# Altium footprint library userlib.PCBLIB: 26 footprints (part 1 of 2)
Each footprint in its own frame and in the unit in brackets; x right, y up, seen from the top. Pads: shape width x height; smd on the part's side, far side on the other; paste and mask are expansions set on the pad; w line width, h text height; cw(c..) or ccw(c..) is an arc to the next point about the centre after c.
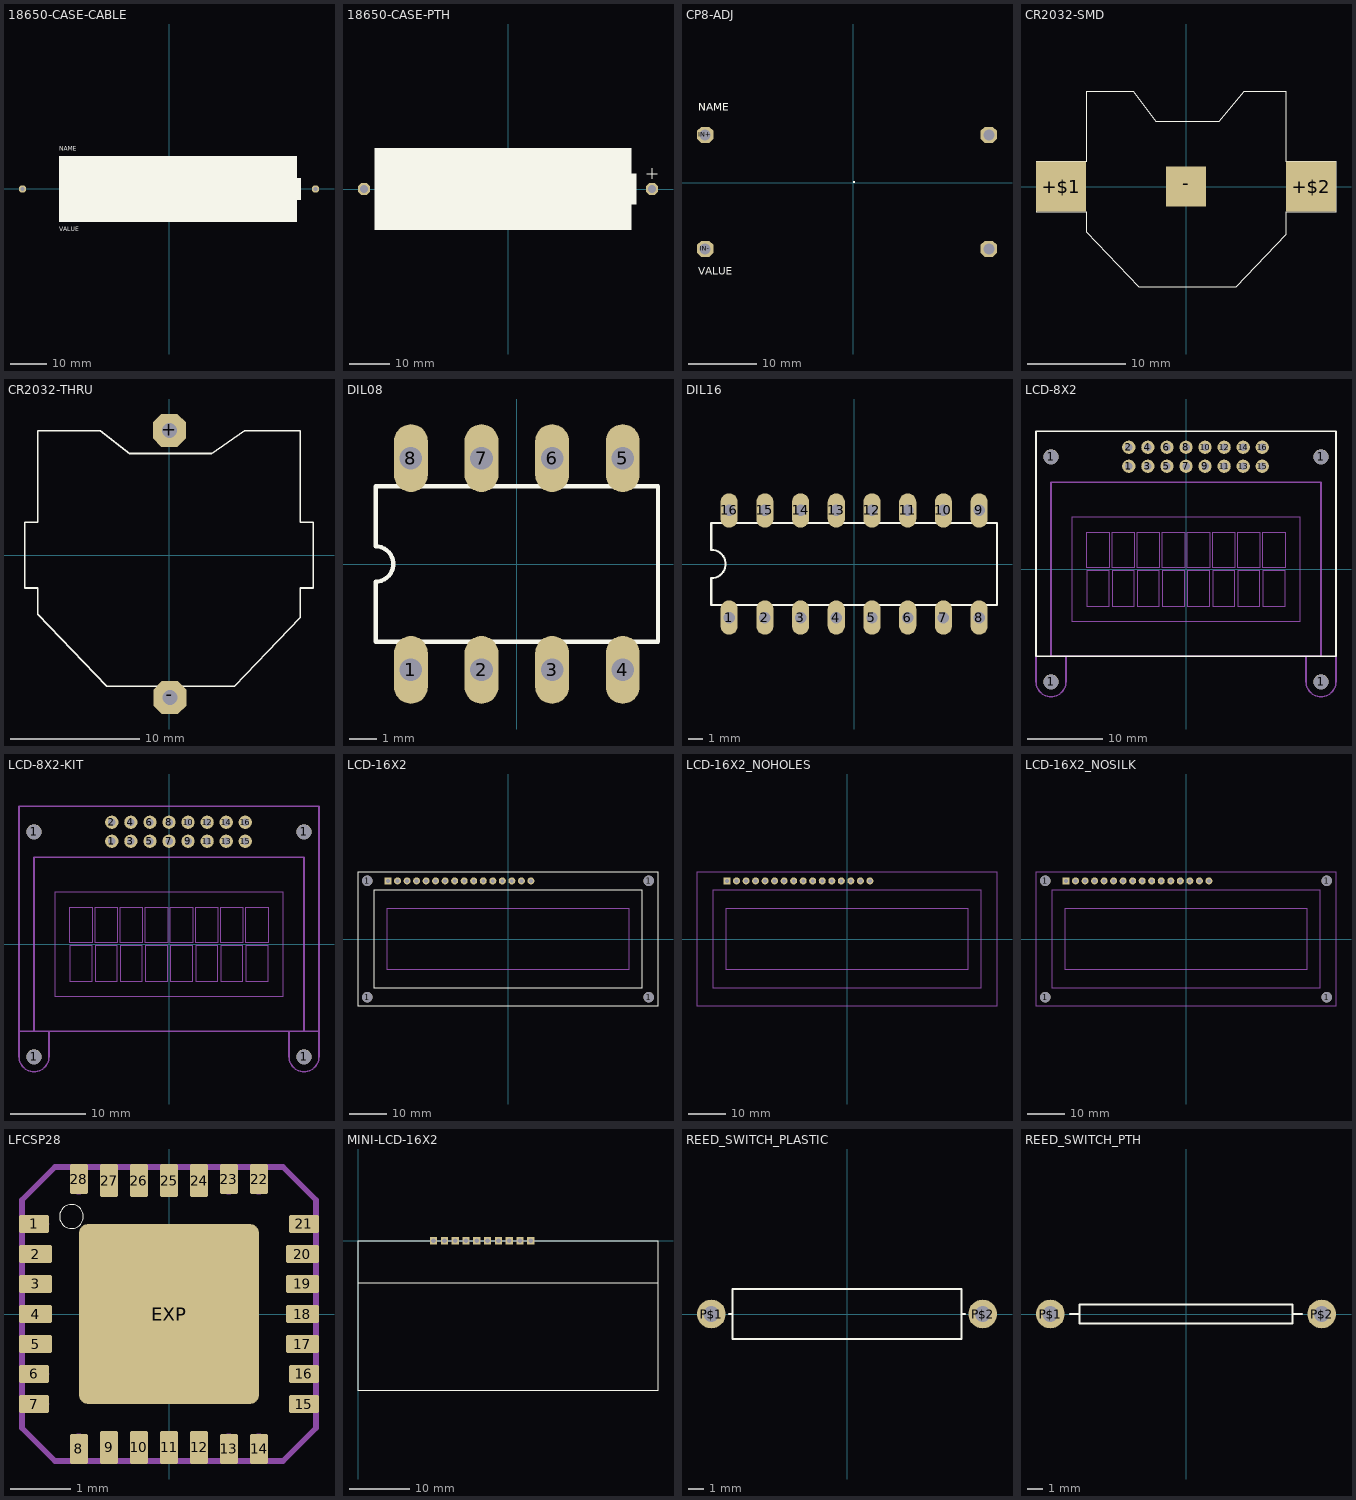
[diagram p0: the footprints below, top view; thin cyan lines are the x and y axes]

## 18650-CASE-CABLE [mil]
pads (2):
  oct 76x76 hole 39.37: NEG(-1574.8,0) POS(1574.8,0)
Top Overlay:
  rectangle: -1181.1,-354.33 1377.95,354.33
  rectangle: 1377.95,-118.11 1417.32,118.11
  text "NAME" at -1181.1,393.7 h77.5
  text "VALUE" at -1181.1,-472.44 h77.5

## 18650-CASE-PTH [mm]
pads (2):
  oct 3x3 hole 2: NEG(-35.56,0) POS(35.56,0)
Top Overlay:
  rectangle: -33.02,-10.16 30.48,10.16
  rectangle: 30.48,-3.81 31.75,3.81
  lines w0.127: 34.29,3.81 36.83,3.81 ; 35.56,2.54 35.56,5.08

## CP8-ADJ [mil]
pads (4):
  oct 94.48x94.48 hole 62.99: IN+(-858.66,277.56) IN-(-858.66,-383.86) OUT+(787.01,277.56) OUT-(787.01,-383.86)
Top Overlay:
  region: 0,0 10,0 10,10 0,10
  text "NAME" at -900,400 h77.5
  text "NAME" at -900,400 h77.5
  text "VALUE" at -900,-550 h77.5

## CR2032-SMD [mil]
pads (3):
  rect 200x200 smd: +$1(-500,0) +$2(500,0)
  rect 160x160 smd: -(0,0)
Top Overlay:
  circle w5: c-510,0 r36.06
  circle w5: c500,10 r36.06
  lines w5: -600,-100 -400,-100 -400,-180 -190,-400 200,-400 400,-190 400,-100 600,-100 600,100 400,100 400,380 230,380 130,260 -120,260 -210,380 -400,380 -400,100 -600,100 -600,-100
Top Solder:
  region: 0,0 10,0 10,10 0,10

## CR2032-THRU [mil]
pads (2):
  oct 100x100 hole 45: +(1.26,380.71) -(2.68,-434.65)
Top Overlay:
  lines w5: -440,-100 -400,-100 -400,-180 -190,-400 200,-400 400,-190 400,-100 440,-100 440,100 400,100 400,380 230,380 130,310 -120,310 -210,380 -400,380 -400,100 -440,100 -440,-100
Top Solder:
  region: 0,0 10,0 10,10 0,10

## DIL08 [mil]
pads (8):
  oval 48x96 hole 32: 1(-150,-150) 2(-50,-150) 3(50,-150) 4(150,-150) 5(150,150) 6(50,150) 7(-50,150) 8(-150,150)
Top Overlay:
  lines w6: -200,-110 -200,-25 ccw(c-200,0) -200,25 -200,110 200,110 200,-110 -200,-110

## DIL16 [mil]
pads (16):
  oval 48x96 hole 32: 1(-350,-150) 2(-250,-150) 3(-150,-150) 4(-50,-150) 5(50,-150) 6(150,-150) 7(250,-150) 8(350,-150) 9(350,150) 10(250,150) 11(150,150) 12(50,150) 13(-50,150) 14(-150,150) 15(-250,150) 16(-350,150)
Top Overlay:
  lines w6: -400,-115 400,-115 400,115 -400,115 -400,40 cw(c-400,0) -400,-40 -400,-115

## LCD-8X2 [mil]
pads (20):
  round 78.74 hole 78.74: 1(-708.66,-590.55) 1(-708.66,590.55) 1(708.66,-590.55) 1(708.66,590.55)
  round 70 hole 39.37: 1(-300,540.55) 2(-300,640.55) 3(-200,540.55) 4(-200,640.55) 5(-100,540.55) 6(-100,640.55) 7(0,540.55) 8(0,640.55) 9(100,540.55) 10(100,640.55) 11(200,540.55) 12(200,640.55) 13(300,540.55) 14(300,640.55) 15(400,540.55) 16(400,640.55)
Top Overlay:
  lines w8: -787.4,-456.69 -787.4,724.41 787.4,724.41 787.4,-456.69 -787.4,-456.69
Mechanical 16:
  lines w5: -598.43,-273.62 -598.43,273.62 598.43,273.62 598.43,-273.62 -598.43,-273.62 ; -519.69,-194.88 -519.69,-7.87 -403.54,-7.87 -403.54,-194.88 -519.69,-194.88 ; -519.69,7.87 -519.69,194.88 -403.54,194.88 -403.54,7.87 -519.69,7.87 ; -387.8,-194.88 -387.8,-7.87 -271.65,-7.87 -271.65,-194.88 -387.8,-194.88 ; -387.8,7.87 -387.8,194.88 -271.65,194.88 -271.65,7.87 -387.8,7.87 ; -255.91,-194.88 -255.91,-7.87 -139.76,-7.87 -139.76,-194.88 -255.91,-194.88 ; -255.91,7.87 -255.91,194.88 -139.76,194.88 -139.76,7.87 -255.91,7.87 ; -124.02,-194.88 -124.02,-7.87 -7.87,-7.87 -7.87,-194.88 -124.02,-194.88 ; -124.02,7.87 -124.02,194.88 -7.87,194.88 -7.87,7.87 -124.02,7.87 ; 7.87,-194.88 7.87,-7.87 124.02,-7.87 124.02,-194.88 7.87,-194.88 ; 7.87,7.87 7.87,194.88 124.02,194.88 124.02,7.87 7.87,7.87 ; 139.76,-194.88 139.76,-7.87 255.91,-7.87 255.91,-194.88 139.76,-194.88 ; 139.76,7.87 139.76,194.88 255.91,194.88 255.91,7.87 139.76,7.87 ; 271.65,-194.88 271.65,-7.87 387.8,-7.87 387.8,-194.88 271.65,-194.88 ; 271.65,7.87 271.65,194.88 387.8,194.88 387.8,7.87 271.65,7.87 ; 403.54,-194.88 403.54,-7.87 519.69,-7.87 519.69,-194.88 403.54,-194.88 ; 403.54,7.87 403.54,194.88 519.69,194.88 519.69,7.87 403.54,7.87
  lines w8: -787.4,-456.69 -787.4,-590.55 ccw(c-708.66,-590.55) -629.92,-590.55 -629.92,-456.69 ; 629.92,-456.69 629.92,-590.55 ccw(c708.66,-590.55) 787.4,-590.55 787.4,-456.69 ; -708.66,-456.69 -708.66,456.69 708.66,456.69 708.66,-456.69 -708.66,-456.69

## LCD-8X2-KIT [mil]
pads (20):
  round 78.74 hole 78.74: 1(-708.66,-590.55) 1(-708.66,590.55) 1(708.66,-590.55) 1(708.66,590.55)
  round 70 hole 39.37: 1(-300,540.55) 2(-300,640.55) 3(-200,540.55) 4(-200,640.55) 5(-100,540.55) 6(-100,640.55) 7(0,540.55) 8(0,640.55) 9(100,540.55) 10(100,640.55) 11(200,540.55) 12(200,640.55) 13(300,540.55) 14(300,640.55) 15(400,540.55) 16(400,640.55)
Top Solder:
  region: 0,0 10,0 10,10 0,10
  region: 0,0 10,0 10,10 0,10
  region: 0,0 10,0 10,10 0,10
  region: 0,0 10,0 10,10 0,10
  region: 0,0 10,0 10,10 0,10
  region: 0,0 10,0 10,10 0,10
  region: 0,0 10,0 10,10 0,10
  region: 0,0 10,0 10,10 0,10
  region: 0,0 10,0 10,10 0,10
  region: 0,0 10,0 10,10 0,10
  region: 0,0 10,0 10,10 0,10
  region: 0,0 10,0 10,10 0,10
  region: 0,0 10,0 10,10 0,10
  region: 0,0 10,0 10,10 0,10
  region: 0,0 10,0 10,10 0,10
  region: 0,0 10,0 10,10 0,10
Bottom Solder:
  region: 0,0 10,0 10,10 0,10
  region: 0,0 10,0 10,10 0,10
  region: 0,0 10,0 10,10 0,10
  region: 0,0 10,0 10,10 0,10
  region: 0,0 10,0 10,10 0,10
  region: 0,0 10,0 10,10 0,10
  region: 0,0 10,0 10,10 0,10
  region: 0,0 10,0 10,10 0,10
  region: 0,0 10,0 10,10 0,10
  region: 0,0 10,0 10,10 0,10
  region: 0,0 10,0 10,10 0,10
  region: 0,0 10,0 10,10 0,10
  region: 0,0 10,0 10,10 0,10
  region: 0,0 10,0 10,10 0,10
  region: 0,0 10,0 10,10 0,10
  region: 0,0 10,0 10,10 0,10
Mechanical 16:
  lines w5: -598.43,-273.62 -598.43,273.62 598.43,273.62 598.43,-273.62 -598.43,-273.62 ; -519.69,-194.88 -519.69,-7.87 -403.54,-7.87 -403.54,-194.88 -519.69,-194.88 ; -519.69,7.87 -519.69,194.88 -403.54,194.88 -403.54,7.87 -519.69,7.87 ; -387.8,-194.88 -387.8,-7.87 -271.65,-7.87 -271.65,-194.88 -387.8,-194.88 ; -387.8,7.87 -387.8,194.88 -271.65,194.88 -271.65,7.87 -387.8,7.87 ; -255.91,-194.88 -255.91,-7.87 -139.76,-7.87 -139.76,-194.88 -255.91,-194.88 ; -255.91,7.87 -255.91,194.88 -139.76,194.88 -139.76,7.87 -255.91,7.87 ; -124.02,-194.88 -124.02,-7.87 -7.87,-7.87 -7.87,-194.88 -124.02,-194.88 ; -124.02,7.87 -124.02,194.88 -7.87,194.88 -7.87,7.87 -124.02,7.87 ; 7.87,-194.88 7.87,-7.87 124.02,-7.87 124.02,-194.88 7.87,-194.88 ; 7.87,7.87 7.87,194.88 124.02,194.88 124.02,7.87 7.87,7.87 ; 139.76,-194.88 139.76,-7.87 255.91,-7.87 255.91,-194.88 139.76,-194.88 ; 139.76,7.87 139.76,194.88 255.91,194.88 255.91,7.87 139.76,7.87 ; 271.65,-194.88 271.65,-7.87 387.8,-7.87 387.8,-194.88 271.65,-194.88 ; 271.65,7.87 271.65,194.88 387.8,194.88 387.8,7.87 271.65,7.87 ; 403.54,-194.88 403.54,-7.87 519.69,-7.87 519.69,-194.88 403.54,-194.88 ; 403.54,7.87 403.54,194.88 519.69,194.88 519.69,7.87 403.54,7.87
  lines w8: -629.92,-456.69 -629.92,-590.55 cw(c-708.66,-590.55) -787.4,-590.55 -787.4,-456.69 ; 629.92,-456.69 629.92,-590.55 ccw(c708.66,-590.55) 787.4,-590.55 787.4,-456.69 ; -787.4,-456.69 -787.4,724.41 787.4,724.41 787.4,-456.69 ; -787.4,-456.69 787.4,-456.69 ; -708.66,-456.69 -708.66,456.69 708.66,456.69 708.66,-456.69 -708.66,-456.69

## LCD-16X2 [mil]
pads (20):
  round 110.24 hole 110.24: 1(-1476.38,-610.24) 1(-1476.38,610.24) 1(1476.38,-610.24) 1(1476.38,610.24)
  rect 74x74 hole 40: 1(-1259.84,610.24)
  round 74 hole 40: 2(-1159.84,610.24) 3(-1059.84,610.24) 4(-959.84,610.24) 5(-859.84,610.24) 6(-759.84,610.24) 7(-659.84,610.24) 8(-559.84,610.24) 9(-459.84,610.24) 10(-359.84,610.24) 11(-259.84,610.24) 12(-159.84,610.24) 13(-59.84,610.24) 14(40.16,610.24) 15(140.16,610.24) 16(240.16,610.24)
Top Overlay:
  lines w8: -1574.8,-708.66 1574.8,-708.66 1574.8,708.66 -1574.8,708.66 -1574.8,-708.66 ; -1403.54,-517.72 1403.54,-517.72 1403.54,517.72 -1403.54,517.72 -1403.54,-517.72
Mechanical 12:
  lines w8: -1269.69,-322.83 1269.69,-322.83 1269.69,322.83 -1269.69,322.83 -1269.69,-322.83
Mechanical 16:
  text "1" at -1350,600 h62

## LCD-16X2_NOHOLES [mil]
pads (16):
  rect 74x74 hole 40: 1(-1259.84,610.24)
  round 74 hole 40: 2(-1159.84,610.24) 3(-1059.84,610.24) 4(-959.84,610.24) 5(-859.84,610.24) 6(-759.84,610.24) 7(-659.84,610.24) 8(-559.84,610.24) 9(-459.84,610.24) 10(-359.84,610.24) 11(-259.84,610.24) 12(-159.84,610.24) 13(-59.84,610.24) 14(40.16,610.24) 15(140.16,610.24) 16(240.16,610.24)
Mechanical 16:
  lines w8: -1574.8,-708.66 1574.8,-708.66 1574.8,708.66 -1574.8,708.66 -1574.8,-708.66 ; -1403.54,-517.72 1403.54,-517.72 1403.54,517.72 -1403.54,517.72 -1403.54,-517.72 ; -1269.69,-322.83 1269.69,-322.83 1269.69,322.83 -1269.69,322.83 -1269.69,-322.83
  text "1" at -1350,600 h62

## LCD-16X2_NOSILK [mil]
pads (20):
  round 110.24 hole 110.24: 1(-1476.38,-610.24) 1(-1476.38,610.24) 1(1476.38,-610.24) 1(1476.38,610.24)
  rect 74x74 hole 40: 1(-1259.84,610.24)
  round 74 hole 40: 2(-1159.84,610.24) 3(-1059.84,610.24) 4(-959.84,610.24) 5(-859.84,610.24) 6(-759.84,610.24) 7(-659.84,610.24) 8(-559.84,610.24) 9(-459.84,610.24) 10(-359.84,610.24) 11(-259.84,610.24) 12(-159.84,610.24) 13(-59.84,610.24) 14(40.16,610.24) 15(140.16,610.24) 16(240.16,610.24)
Mechanical 16:
  lines w8: -1574.8,-708.66 1574.8,-708.66 1574.8,708.66 -1574.8,708.66 -1574.8,-708.66 ; -1403.54,-517.72 1403.54,-517.72 1403.54,517.72 -1403.54,517.72 -1403.54,-517.72 ; -1269.69,-322.83 1269.69,-322.83 1269.69,322.83 -1269.69,322.83 -1269.69,-322.83
  text "1" at -1350,600 h62

## LFCSP28 [mm]
pads (29):
  rrect20% 0.5x0.3 smd: 1(-2.25,1.5) 6(-2.25,-1) 7(-2.25,-1.5) 15(2.25,-1.5) 16(2.25,-1) 21(2.25,1.5)
  rrect20% 0.55x0.3 smd: 2(-2.225,1) 3(-2.225,0.5) 4(-2.225,0) 5(-2.225,-0.5) 17(2.225,-0.5) 18(2.225,0) 19(2.225,0.5) 20(2.225,1)
  rrect20% 0.3x0.5 smd: 8(-1.5,-2.25) 13(1,-2.25) 14(1.5,-2.25) 22(1.5,2.25) 23(1,2.25) 28(-1.5,2.25)
  rrect20% 0.3x0.55 smd: 9(-1,-2.225) 10(-0.5,-2.225) 11(0,-2.225) 12(0.5,-2.225) 24(0.5,2.225) 25(0,2.225) 26(-0.5,2.225) 27(-1,2.225)
  rrect10% 3x3 smd: EXP(0,0)
Top Overlay:
  circle w0: c-1.625,1.625 r0.2
Top Paste:
  rectangle: -2.475,1.375 -2.025,1.625
  rectangle: -2.475,0.875 -1.975,1.125
  rectangle: -2.475,0.375 -1.975,0.625
  rectangle: -2.475,-0.125 -1.975,0.125
  rectangle: -2.475,-0.625 -1.975,-0.375
  rectangle: -2.475,-1.125 -2.025,-0.875
  region: -0.875,-2.475 -0.875,-2.025 -1.125,-2.025 -1.125,-2.475
  region: -0.375,-2.475 -0.375,-1.975 -0.625,-1.975 -0.625,-2.475
  region: 0.125,-2.475 0.125,-1.975 -0.125,-1.975 -0.125,-2.475
  region: 0.625,-2.475 0.625,-1.975 0.375,-1.975 0.375,-2.475
  region: 1.125,-2.475 1.125,-1.975 0.875,-1.975 0.875,-2.475
  region: 1.625,-2.475 1.625,-2.025 1.375,-2.025 1.375,-2.475
  region: 2.475,-0.875 2.025,-0.875 2.025,-1.125 2.475,-1.125
  region: 2.475,-0.375 1.975,-0.375 1.975,-0.625 2.475,-0.625
  region: 2.475,0.125 1.975,0.125 1.975,-0.125 2.475,-0.125
  region: 2.475,0.625 1.975,0.625 1.975,0.375 2.475,0.375
  region: 2.475,1.125 1.975,1.125 1.975,0.875 2.475,0.875
  region: 2.475,1.625 2.025,1.625 2.025,1.375 2.475,1.375
  region: 0.875,2.475 0.875,2.025 1.125,2.025 1.125,2.475
  region: 0.375,2.475 0.375,1.975 0.625,1.975 0.625,2.475
  region: -0.125,2.475 -0.125,1.975 0.125,1.975 0.125,2.475
  region: -0.625,2.475 -0.625,1.975 -0.375,1.975 -0.375,2.475
  region: -1.125,2.475 -1.125,1.975 -0.875,1.975 -0.875,2.475
  region: -1.625,2.475 -1.625,2.025 -1.375,2.025 -1.375,2.475
  rectangle: -1.05,-1.05 1.05,1.05
  rectangle: -2.475,-1.625 -2.025,-1.375
  region: -1.375,-2.475 -1.375,-2.025 -1.625,-2.025 -1.625,-2.475
  region: 2.475,-1.375 2.025,-1.375 2.025,-1.625 2.475,-1.625
  region: 1.375,2.475 1.375,2.025 1.625,2.025 1.625,2.475
Top Solder:
  rectangle: -2.5,1.35 -2,1.65
  rectangle: -2.5,0.85 -1.95,1.15
  rectangle: -2.5,0.35 -1.95,0.65
  rectangle: -2.5,-0.15 -1.95,0.15
  rectangle: -2.5,-0.65 -1.95,-0.35
  rectangle: -2.5,-1.15 -2,-0.85
  region: -0.85,-2.5 -0.85,-2 -1.15,-2 -1.15,-2.5
  region: -0.35,-2.5 -0.35,-1.95 -0.65,-1.95 -0.65,-2.5
  region: 0.15,-2.5 0.15,-1.95 -0.15,-1.95 -0.15,-2.5
  region: 0.65,-2.5 0.65,-1.95 0.35,-1.95 0.35,-2.5
  region: 1.15,-2.5 1.15,-1.95 0.85,-1.95 0.85,-2.5
  region: 1.65,-2.5 1.65,-2 1.35,-2 1.35,-2.5
  region: 2.5,-0.85 2,-0.85 2,-1.15 2.5,-1.15
  region: 2.5,-0.35 1.95,-0.35 1.95,-0.65 2.5,-0.65
  region: 2.5,0.15 1.95,0.15 1.95,-0.15 2.5,-0.15
  region: 2.5,0.65 1.95,0.65 1.95,0.35 2.5,0.35
  region: 2.5,1.15 1.95,1.15 1.95,0.85 2.5,0.85
  region: 2.5,1.65 2,1.65 2,1.35 2.5,1.35
  region: 0.85,2.5 0.85,2 1.15,2 1.15,2.5
  region: 0.35,2.5 0.35,1.95 0.65,1.95 0.65,2.5
  region: -0.15,2.5 -0.15,1.95 0.15,1.95 0.15,2.5
  region: -0.65,2.5 -0.65,1.95 -0.35,1.95 -0.35,2.5
  region: -1.15,2.5 -1.15,1.95 -0.85,1.95 -0.85,2.5
  region: -1.65,2.5 -1.65,2 -1.35,2 -1.35,2.5
  rectangle: -2.5,-1.65 -2,-1.35
  region: -1.35,-2.5 -1.35,-2 -1.65,-2 -1.65,-2.5
  region: 2.5,-1.35 2,-1.35 2,-1.65 2.5,-1.65
  region: 1.35,2.5 1.35,2 1.65,2 1.65,2.5
  region: 0,0 0.254,0 0.254,0.254 0,0.254
Mechanical 16:
  circle w0: c-2.125,1.5 r0.125
  circle w0: c-2.125,1 r0.125
  circle w0: c-2.125,0.5 r0.125
  circle w0: c-2.125,0 r0.125
  circle w0: c-2.125,-0.5 r0.125
  circle w0: c-2.125,-1 r0.125
  circle w0: c-1.5,-2.125 r0.125
  circle w0: c-1,-2.125 r0.125
  circle w0: c-0.5,-2.125 r0.125
  circle w0: c0,-2.125 r0.125
  circle w0: c0.5,-2.125 r0.125
  circle w0: c1,-2.125 r0.125
  circle w0: c2.125,-1 r0.125
  circle w0: c2.125,-0.5 r0.125
  circle w0: c2.125,0 r0.125
  circle w0: c2.125,0.5 r0.125
  circle w0: c2.125,1 r0.125
  circle w0: c2.125,1.5 r0.125
  circle w0: c1,2.125 r0.125
  circle w0: c0.5,2.125 r0.125
  circle w0: c0,2.125 r0.125
  circle w0: c-0.5,2.125 r0.125
  circle w0: c-1,2.125 r0.125
  circle w0: c-1.5,2.125 r0.125
  circle w0: c2.125,-1.5 r0.125
  circle w0: c-2.125,-1.5 r0.125
  circle w0: c1.5,-2.125 r0.125
  circle w0: c1.5,2.125 r0.125
  rectangle: -2.5,1.375 -2.125,1.625
  rectangle: -2.5,0.875 -2.125,1.125
  rectangle: -2.5,0.375 -2.125,0.625
  rectangle: -2.5,-0.125 -2.125,0.125
  rectangle: -2.5,-0.625 -2.125,-0.375
  rectangle: -2.5,-1.125 -2.125,-0.875
  region: -1.375,-2.5 -1.375,-2.125 -1.625,-2.125 -1.625,-2.5
  region: -0.875,-2.5 -0.875,-2.125 -1.125,-2.125 -1.125,-2.5
  region: -0.375,-2.5 -0.375,-2.125 -0.625,-2.125 -0.625,-2.5
  region: 0.125,-2.5 0.125,-2.125 -0.125,-2.125 -0.125,-2.5
  region: 0.625,-2.5 0.625,-2.125 0.375,-2.125 0.375,-2.5
  region: 1.125,-2.5 1.125,-2.125 0.875,-2.125 0.875,-2.5
  region: 2.5,-0.875 2.125,-0.875 2.125,-1.125 2.5,-1.125
  region: 2.5,-0.375 2.125,-0.375 2.125,-0.625 2.5,-0.625
  region: 2.5,0.125 2.125,0.125 2.125,-0.125 2.5,-0.125
  region: 2.5,0.625 2.125,0.625 2.125,0.375 2.5,0.375
  region: 2.5,1.125 2.125,1.125 2.125,0.875 2.5,0.875
  region: 2.5,1.625 2.125,1.625 2.125,1.375 2.5,1.375
  region: 0.875,2.5 0.875,2.125 1.125,2.125 1.125,2.5
  region: 0.375,2.5 0.375,2.125 0.625,2.125 0.625,2.5
  region: -0.125,2.5 -0.125,2.125 0.125,2.125 0.125,2.5
  region: -0.625,2.5 -0.625,2.125 -0.375,2.125 -0.375,2.5
  region: -1.125,2.5 -1.125,2.125 -0.875,2.125 -0.875,2.5
  region: -1.625,2.5 -1.625,2.125 -1.375,2.125 -1.375,2.5
  region: 2.5,-1.375 2.125,-1.375 2.125,-1.625 2.5,-1.625
  rectangle: -2.5,-1.625 -2.125,-1.375
  region: 1.625,-2.5 1.625,-2.125 1.375,-2.125 1.375,-2.5
  region: 1.375,2.5 1.375,2.125 1.625,2.125 1.625,2.5
  lines w0.102: -2.45,-1.9 -1.9,-2.45 1.9,-2.45 2.45,-1.9 2.45,1.9 1.9,2.45 -1.9,2.45 -2.45,1.9 -2.45,-1.9

## MINI-LCD-16X2 [mil]
pads (10):
  rect 47.25x47.25 hole 31.5: P$1(1133.86,0) P$2(1062.99,0) P$3(992.13,0) P$4(921.26,0) P$5(850.39,0) P$6(779.53,0) P$7(708.66,0) P$8(637.8,0) P$9(566.93,0) P$10(496.06,0)
Top Overlay:
  lines w5: 0,-275.59 0,-984.25 1968.5,-984.25 1968.5,-275.59 ; 0,-275.59 0,0 1968.5,0 1968.5,-275.59 ; 0,-275.59 1968.5,-275.59

## REED_SWITCH_PLASTIC [mil]
pads (2):
  round 74 hole 40: P$1(-350,0) P$2(350,0)
Top Overlay:
  lines w5: -303.94,0 -295.28,0 ; 303.94,0 295.28,0 ; -295.28,0 -295.28,-64.96 295.28,-64.96 295.28,0 ; -295.28,0 -295.28,64.96 295.28,64.96 295.28,0

## REED_SWITCH_PTH [mil]
pads (2):
  round 74 hole 40: P$1(-350,0) P$2(350,0)
Top Overlay:
  lines w5: -300,0 -275,0 ; 300,0 275,0 ; -275,0 -275,-25 275,-25 275,0 ; -275,0 -275,25 275,25 275,0